# EAGLE library part FDC1004 (library TI_FDC1004)
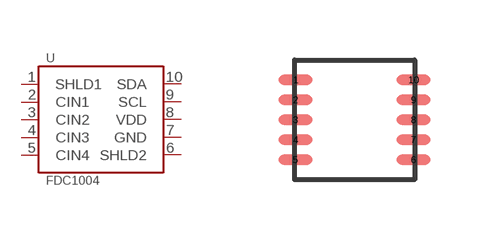
[diagram p0: symbol with the pads of FDC1004; footprint FDC1004]

Designator prefix -

## FDC1004  [FDC1004]
1  SHLD1  out
2  CIN1  out
3  CIN2  out
4  CIN3  out
5  CIN4  out
6  SHLD2  out
7  GND  pwr
8  VDD  pwr
9  SCL  in
10  SDA  in

## Footprint FDC1004 (pad centres in mm)
smd 0.85 x 0.25: 1 -1.475,1; 2 -1.475,0.5; 3 -1.475,0; 4 -1.475,-0.5; 5 -1.475,-1; 6 1.475,-1; 7 1.475,-0.5; 8 1.475,0; 9 1.475,0.5; 10 1.475,1